# Altium schematic symbol library DRV5032FADBZR.SchLib: 1 symbol
Pins are listed as number, name and electrical type; pins without a type are passive.

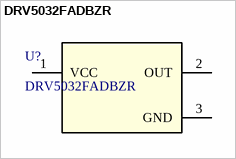
[diagram p0: symbol DRV5032FADBZR]

## DRV5032FADBZR
designator U?
Low-power (5Hz, <1ÂµA) low-voltage (up to 5.5V) switch 3-SOT-23 -40 to 85; Manufacturer_Name: Texas Instruments; TYPE: TYPE; RefDes: RefDes; Copyright: Copyright (C) 2026 Ultra Librarian. All rights reserved.; Manufacturer_Part_Number: DRV5032FADBZR; Datasheet: https://www.ti.com/lit/gpn/drv5032
footprint DBZ0003A-IPC_A
pins: 1 VCC (power), 2 OUT (oc), 3 GND (power)